# EAGLE library part HMC5983 (library IMU)
IC COMPASS 3 AXIS 16-LCC
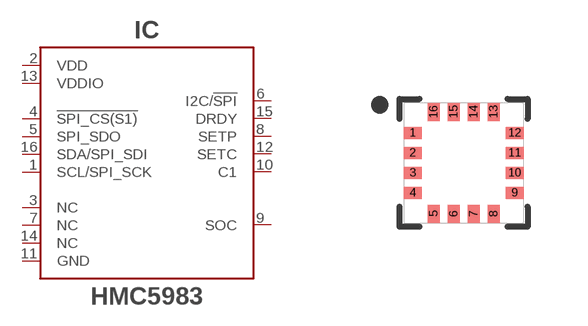
[diagram p2: symbol with the pads of LPCC-16; footprint LPCC-16]

Designator prefix IC

## HMC5983 (DIGIKEY#: 342-1092-1-ND; MANF: Honeywell Microelectronics & Precision Sensors; MANF#: HMC5983-TR)  [LPCC-16]
1  SCL/SPI_SCK
2  VDD
3  NC
4  !SPI_CS(S1)
5  SPI_SDO
6  I2C/!SPI
7  NC
8  SETP
9  SOC
10  C1
11  GND
12  SETC
13  VDDIO
14  NC
15  DRDY
16  SDA/SPI_SDI

## Footprint LPCC-16 (pad centres in mm)
smd 0.45 x 0.3: 1 -1.275,0.75; 2 -1.275,0.25; 3 -1.275,-0.25; 4 -1.275,-0.75; 9 1.275,-0.75; 10 1.275,-0.25; 11 1.275,0.25; 12 1.275,0.75
smd 0.3 x 0.45: 5 -0.75,-1.275; 6 -0.25,-1.275; 7 0.25,-1.275; 8 0.75,-1.275; 13 0.75,1.275; 14 0.25,1.275; 15 -0.25,1.275; 16 -0.75,1.275